# Altium integrated library Maxim Interface Laser Diode Driver.IntLib: 2 symbols
Pins are listed as number, name and electrical type; pins without a type are passive.

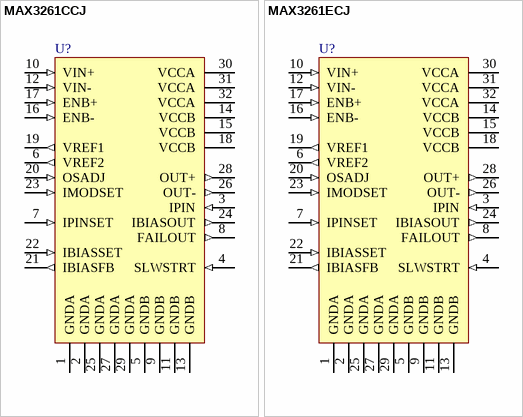
[diagram p0: symbols MAX3261CCJ to MAX3261ECJ]

## MAX3261CCJ
designator U?
Single +5V, Fully Integrated, 1.25Gbps Laser Diode Driver; Published: 16-Jan-2001; LatestRevisionDate: 13-Apr-2006; LatestRevisionNote: IPC-7351 Footprint Added.; DatasheetVersion: Aug-1997; PackageVersion: Aug-2000; PackageReference: TQFP32; Publisher: Altium Limited; PackageDescription: 32-Pin Thin Quad Flat Pack 0.8 mm Pitch; ComponentLink1Description: Manufacturer Link; ComponentLink1URL: http://www.maxim-ic.com/; ComponentLink2Description: Datasheet; ComponentLink2URL: http://pdfserv.maxim-ic.com/en/ds/MAX3261.pdf
footprint TQFP32_N (Thin QFP, 32-Leads, Body 7x7mm, Pitch 0.8mm, IPC Medium Density)
footprint TQFP32_L (Thin QFP, 32-Leads, Body 7x7mm, Pitch 0.8mm, IPC High Density)
footprint TQFP32_M (Thin QFP, 32-Leads, Body 7x7mm, Pitch 0.8mm, IPC Low Density)
3D model MAX3261-TQFP32 (32-Pin Thin Quad Flat Pack 0.8 mm Pitch)
pins: 1 GNDA (power), 2 GNDA (power), 3 IPIN (in), 4 SLWSTRT (in), 5 GNDB (power), 6 VREF2 (out), 7 IPINSET (in), 8 FAILOUT (out), 9 GNDB (power), 10 VIN+ (in), 11 GNDB (power), 12 VIN- (in), 13 GNDB (power), 14 VCCB (power), 15 VCCB (power), 16 ENB- (in), 17 ENB+ (in), 18 VCCB (power), 19 VREF1 (out), 20 OSADJ (in), 21 IBIASFB (out), 22 IBIASSET (in), 23 IMODSET (in), 24 IBIASOUT (out), 25 GNDA (power), 26 OUT- (out), 27 GNDA (power), 28 OUT+ (out), 29 GNDA (power), 30 VCCA (power), 31 VCCA (power), 32 VCCA (power)

## MAX3261ECJ
designator U?
Single +5V, Fully Integrated, 1.25Gbps Laser Diode Driver; Published: 16-Jan-2001; LatestRevisionDate: 13-Apr-2006; LatestRevisionNote: IPC-7351 Footprint Added.; DatasheetVersion: Aug-1997; PackageVersion: Aug-2000; PackageReference: TQFP32; Publisher: Altium Limited; PackageDescription: 32-Pin Thin Quad Flat Pack 0.8 mm Pitch; ComponentLink1Description: Manufacturer Link; ComponentLink1URL: http://www.maxim-ic.com/; ComponentLink2Description: Datasheet; ComponentLink2URL: http://pdfserv.maxim-ic.com/en/ds/MAX3261.pdf
footprint TQFP32_N (Thin QFP, 32-Leads, Body 7x7mm, Pitch 0.8mm, IPC Medium Density)
footprint TQFP32_L (Thin QFP, 32-Leads, Body 7x7mm, Pitch 0.8mm, IPC High Density)
footprint TQFP32_M (Thin QFP, 32-Leads, Body 7x7mm, Pitch 0.8mm, IPC Low Density)
3D model MAX3261-TQFP32 (32-Pin Thin Quad Flat Pack 0.8 mm Pitch)
pins: 1 GNDA (power), 2 GNDA (power), 3 IPIN (in), 4 SLWSTRT (in), 5 GNDB (power), 6 VREF2 (out), 7 IPINSET (in), 8 FAILOUT (out), 9 GNDB (power), 10 VIN+ (in), 11 GNDB (power), 12 VIN- (in), 13 GNDB (power), 14 VCCB (power), 15 VCCB (power), 16 ENB- (in), 17 ENB+ (in), 18 VCCB (power), 19 VREF1 (out), 20 OSADJ (in), 21 IBIASFB (out), 22 IBIASSET (in), 23 IMODSET (in), 24 IBIASOUT (out), 25 GNDA (power), 26 OUT- (out), 27 GNDA (power), 28 OUT+ (out), 29 GNDA (power), 30 VCCA (power), 31 VCCA (power), 32 VCCA (power)